# Altium footprint library LUMINUS MP-2016.PCBLIB: 1 footprints
Each footprint in its own frame and in the unit in brackets; x right, y up, seen from the top. Pads: shape width x height; smd on the part's side, far side on the other; paste and mask are expansions set on the pad; w line width, h text height; cw(c..) or ccw(c..) is an arc to the next point about the centre after c.
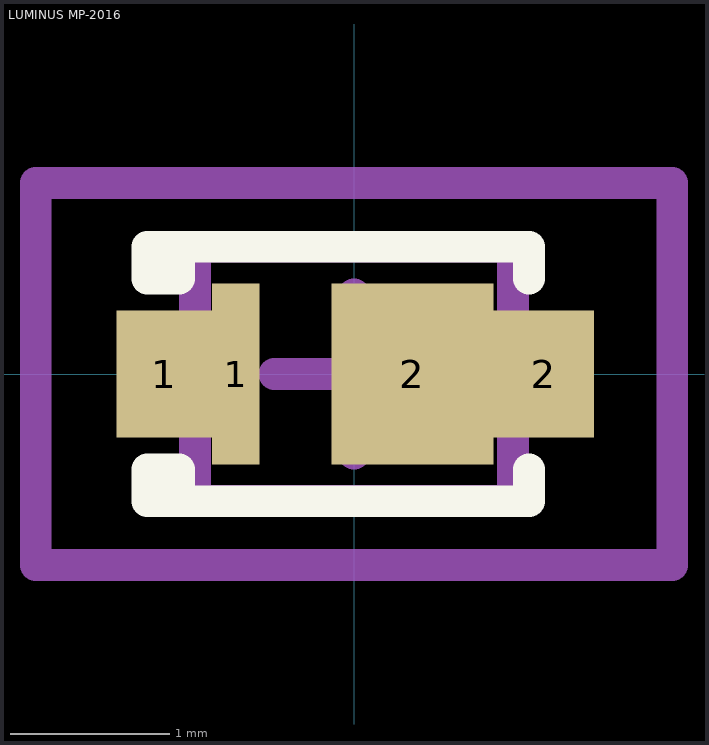
[diagram p0: the footprint, top view; thin cyan lines are the x and y axes]

## LUMINUS MP-2016 [mm]
height 0.52
pads (4):
  rect 0.6x0.8 smd: 1(-1.192,0)
  rect 0.3x1.14 smd: 1(-0.742,0)
  rect 1.02x1.14 smd: 2(0.367,0)
  rect 0.63x0.8 smd: 2(1.193,0)
Top Overlay:
  lines w0.2: 1.1,-0.6 1.1,-0.8 1,-0.8 -1.1,-0.8 ; 1.1,0.6 1.1,0.8 1,0.8 -1.1,0.8 ; -1.1,-0.8 -1.1,-0.6 -1.3,-0.6 -1.3,-0.8 -1.2,-0.8 -1.1,-0.8 ; -1.1,0.8 -1.1,0.6 -1.3,0.6 -1.3,0.8 -1.1,0.8
Mechanical 1:
  lines w0.2: -0.999,-0.799 -0.999,0.799 0.999,0.799 0.999,-0.799 -0.999,-0.799
Mechanical 15:
  lines w0.2: -0.5,0 0.5,0 ; 0,-0.5 0,0.5 ; -2,-1.2 2,-1.2 2,1.2 -2,1.2 -2,-1.2
3D body "LUMINUS MP2016.STEP": height 0.52, standoff 0, extent -0.999,-0.799 0.999,0.799